# Altium schematic symbol library WPME-FISM.SchLib: 32 symbols
Pins are listed as number, name and electrical type; pins without a type are passive.

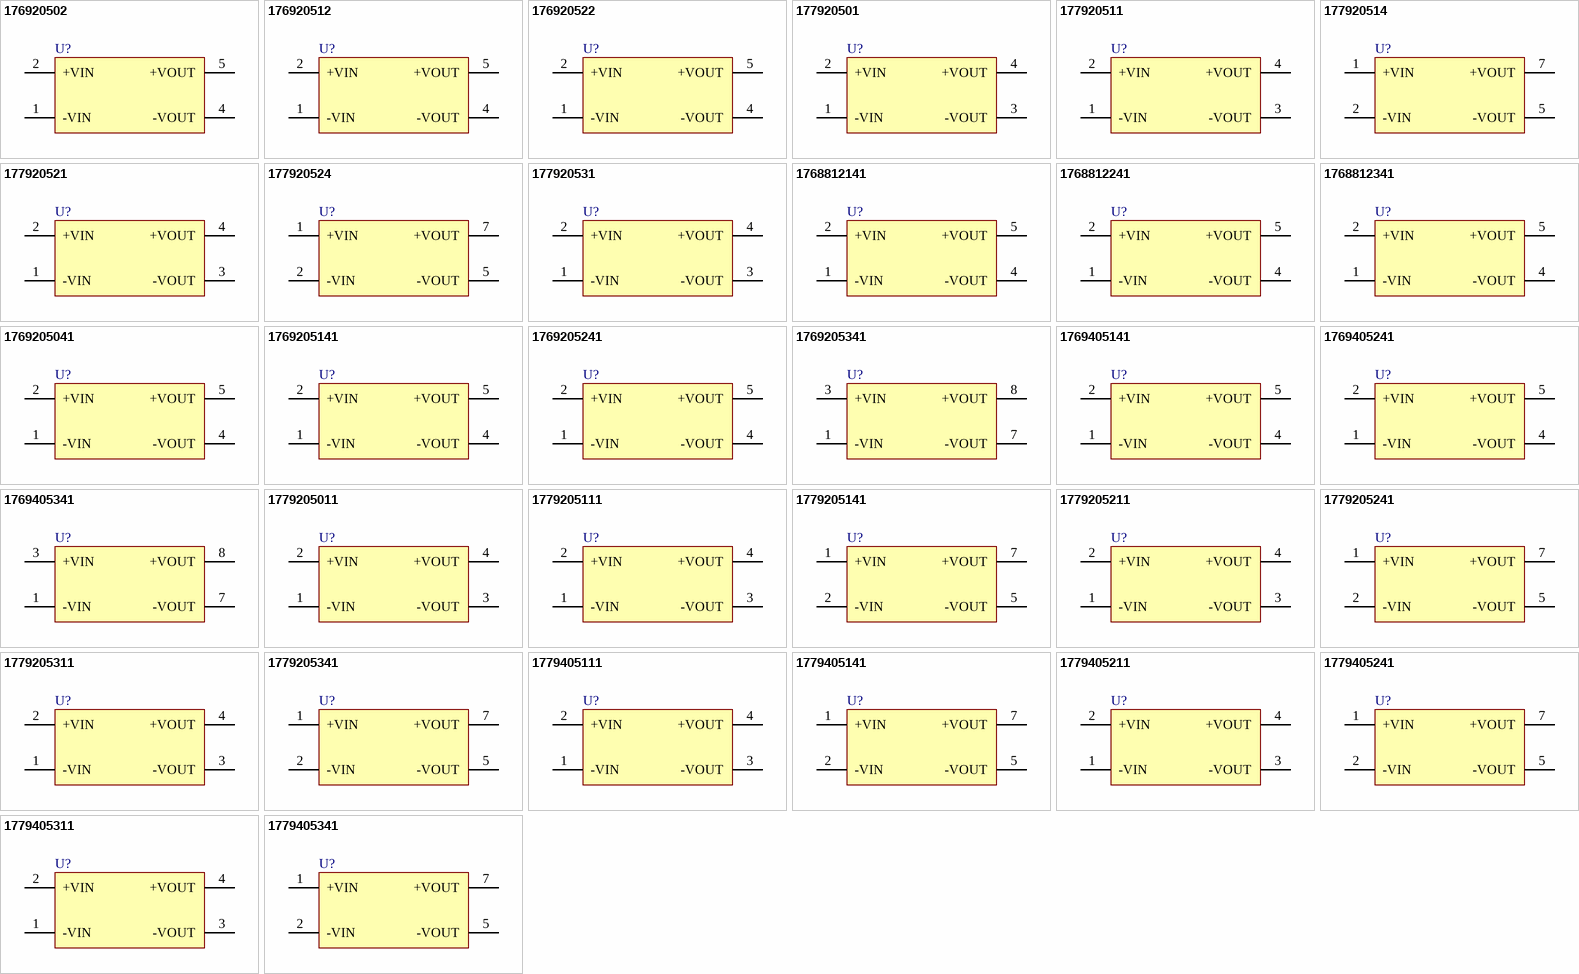
[diagram p0: symbols 176920502 to 1779405341]

## 176920502
designator U?, comment 2.97 - 3.63Vin, 5Vout  (value not drawn)
WPME-FISM Fixed Isolated Module, SMT-8, 2.97 - 3.63Vin, 5Vout, 1W; Manufacturer Part Number: 176920502; Manufacturer: Wurth Elektronik; Output Voltage: 5V; Type of Insulation: Functional; Isolation Voltage: 2000V; Short Circuit Protection: no; Category: Isolated Converter; Match Code: WPME-FISM; ComponentLink1Description: Website Link; ComponentLink1URL: https://www.we-online.com; ComponentLink2Description: Datasheet Link; ComponentLink2URL: https://www.we-online.com/components/products/datasheet/176920502; Mount: Surface Mount; Operating Temperature Min: -40degC; Operating Temperature Max: 100degC; Packaging: Tape and Reel; Case/Size Code: SMT-8; Length: 12.75mm; Width: 10.7mm; Height: 6.7mm; Input Voltage: 2.97 - 3.63V; Output Power: 1W
footprint SMT-8_176920502
pins: 1 -VIN, 2 +VIN, 4 -VOUT, 5 +VOUT

## 176920512
designator U?, comment 4.5 - 5.5Vin, 5Vout  (value not drawn)
WPME-FISM Fixed Isolated Module, SMT-8, 4.5 - 5.5Vin, 5Vout, 1W; Manufacturer Part Number: 176920512; Manufacturer: Wurth Elektronik; Output Voltage: 5V; Type of Insulation: Functional; Isolation Voltage: 2000V; Short Circuit Protection: no; Category: Isolated Converter; Match Code: WPME-FISM; ComponentLink1Description: Website Link; ComponentLink1URL: https://www.we-online.com; ComponentLink2Description: Datasheet Link; ComponentLink2URL: https://www.we-online.com/components/products/datasheet/176920512; Mount: Surface Mount; Operating Temperature Min: -40degC; Operating Temperature Max: 100degC; Packaging: Tape and Reel; Case/Size Code: SMT-8; Length: 12.75mm; Width: 10.7mm; Height: 6.7mm; Input Voltage: 4.5 - 5.5V; Output Power: 1W
footprint SMT-8_176920512
pins: 1 -VIN, 2 +VIN, 4 -VOUT, 5 +VOUT

## 176920522
designator U?, comment 10.8 - 13.2Vin, 5Vout  (value not drawn)
WPME-FISM Fixed Isolated Module, SMT-8, 10.8 - 13.2Vin, 5Vout, 1W; Manufacturer Part Number: 176920522; Manufacturer: Wurth Elektronik; Output Voltage: 5V; Type of Insulation: Functional; Isolation Voltage: 2000V; Short Circuit Protection: no; Category: Isolated Converter; Match Code: WPME-FISM; ComponentLink1Description: Website Link; ComponentLink1URL: https://www.we-online.com; ComponentLink2Description: Datasheet Link; ComponentLink2URL: https://www.we-online.com/components/products/datasheet/176920522; Mount: Surface Mount; Operating Temperature Min: -40degC; Operating Temperature Max: 100degC; Packaging: Tape and Reel; Case/Size Code: SMT-8; Length: 12.75mm; Width: 10.7mm; Height: 6.7mm; Input Voltage: 10.8 - 13.2V; Output Power: 1W
footprint SMT-8_176920522
pins: 1 -VIN, 2 +VIN, 4 -VOUT, 5 +VOUT

## 177920501
designator U?, comment 2.97 - 3.63Vin, 5Vout  (value not drawn)
WPME-FISM Fixed Isolated Module, SIP-4, 2.97 - 3.63Vin, 5Vout, 1W; Manufacturer Part Number: 177920501; Manufacturer: Wurth Elektronik; Output Voltage: 5V; Type of Insulation: Functional; Isolation Voltage: 1000V; Short Circuit Protection: no; Category: Isolated Converter; Match Code: WPME-FISM; ComponentLink1Description: Website Link; ComponentLink1URL: https://www.we-online.com; ComponentLink2Description: Datasheet Link; ComponentLink2URL: https://www.we-online.com/components/products/datasheet/177920501; Mount: Through Hole; Operating Temperature Min: -40degC; Operating Temperature Max: 85degC; Packaging: Tube; Case/Size Code: SIP-4; Length: 11.5mm; Width: 6mm; Height: 10mm; Input Voltage: 2.97 - 3.63V; Output Power: 1W
footprint SIP-4_177920501
pins: 1 -VIN, 2 +VIN, 3 -VOUT, 4 +VOUT

## 177920511
designator U?, comment 4.5 - 5.5Vin, 5Vout  (value not drawn)
WPME-FISM Fixed Isolated Module, SIP-4, 4.5 - 5.5Vin, 5Vout, 1W; Manufacturer Part Number: 177920511; Manufacturer: Wurth Elektronik; Output Voltage: 5V; Type of Insulation: Functional; Isolation Voltage: 1000V; Short Circuit Protection: no; Category: Isolated Converter; Match Code: WPME-FISM; ComponentLink1Description: Website Link; ComponentLink1URL: https://www.we-online.com; ComponentLink2Description: Datasheet Link; ComponentLink2URL: https://www.we-online.com/components/products/datasheet/177920511; Mount: Through Hole; Operating Temperature Min: -40degC; Operating Temperature Max: 85degC; Packaging: Tube; Case/Size Code: SIP-4; Length: 11.5mm; Width: 6mm; Height: 10mm; Input Voltage: 4.5 - 5.5V; Output Power: 1W
footprint SIP-4_177920511
pins: 1 -VIN, 2 +VIN, 3 -VOUT, 4 +VOUT

## 177920514
designator U?, comment 4.5 - 5.5Vin, 5Vout  (value not drawn)
WPME-FISM Fixed Isolated Module, SIP-7, 4.5 - 5.5Vin, 5Vout, 1W; Manufacturer Part Number: 177920514; Manufacturer: Wurth Elektronik; Output Voltage: 5V; Type of Insulation: Functional; Isolation Voltage: 4000V; Short Circuit Protection: no; Category: Isolated Converter; Match Code: WPME-FISM; ComponentLink1Description: Website Link; ComponentLink1URL: https://www.we-online.com; ComponentLink2Description: Datasheet Link; ComponentLink2URL: https://www.we-online.com/components/products/datasheet/177920514; Mount: Through Hole; Operating Temperature Min: -40degC; Operating Temperature Max: 85degC; Packaging: Tube; Case/Size Code: SIP-7; Length: 19.6mm; Width: 7.05mm; Height: 10.2mm; Input Voltage: 4.5 - 5.5V; Output Power: 1W
footprint SIP-7_177920514
pins: 1 +VIN, 2 -VIN, 5 -VOUT, 7 +VOUT

## 177920521
designator U?, comment 10.8 - 13.2Vin, 5Vout  (value not drawn)
WPME-FISM Fixed Isolated Module, SIP-4, 10.8 - 13.2Vin, 5Vout, 1W; Manufacturer Part Number: 177920521; Manufacturer: Wurth Elektronik; Output Voltage: 5V; Type of Insulation: Functional; Isolation Voltage: 1000V; Short Circuit Protection: no; Category: Isolated Converter; Match Code: WPME-FISM; ComponentLink1Description: Website Link; ComponentLink1URL: https://www.we-online.com; ComponentLink2Description: Datasheet Link; ComponentLink2URL: https://www.we-online.com/components/products/datasheet/177920521; Mount: Through Hole; Operating Temperature Min: -40degC; Operating Temperature Max: 85degC; Packaging: Tube; Case/Size Code: SIP-4; Length: 11.5mm; Width: 6mm; Height: 10mm; Input Voltage: 10.8 - 13.2V; Output Power: 1W
footprint SIP-4_177920521
pins: 1 -VIN, 2 +VIN, 3 -VOUT, 4 +VOUT

## 177920524
designator U?, comment 10.8 - 13.2Vin, 5Vout  (value not drawn)
WPME-FISM Fixed Isolated Module, SIP-7, 10.8 - 13.2Vin, 5Vout, 1W; Manufacturer Part Number: 177920524; Manufacturer: Wurth Elektronik; Output Voltage: 5V; Type of Insulation: Functional; Isolation Voltage: 4000V; Short Circuit Protection: no; Category: Isolated Converter; Match Code: WPME-FISM; ComponentLink1Description: Website Link; ComponentLink1URL: https://www.we-online.com; ComponentLink2Description: Datasheet Link; ComponentLink2URL: https://www.we-online.com/components/products/datasheet/177920524; Mount: Through Hole; Operating Temperature Min: -40degC; Operating Temperature Max: 85degC; Packaging: Tube; Case/Size Code: SIP-7; Length: 19.6mm; Width: 7.05mm; Height: 10.2mm; Input Voltage: 10.8 - 13.2V; Output Power: 1W
footprint SIP-7_177920524
pins: 1 +VIN, 2 -VIN, 5 -VOUT, 7 +VOUT

## 177920531
designator U?, comment 21.6 - 26.4Vin, 5Vout  (value not drawn)
WPME-FISM Fixed Isolated Module, SIP-4, 21.6 - 26.4Vin, 5Vout, 1W; Manufacturer Part Number: 177920531; Manufacturer: Wurth Elektronik; Output Voltage: 5V; Type of Insulation: Functional; Isolation Voltage: 1000V; Short Circuit Protection: no; Category: Isolated Converter; Match Code: WPME-FISM; ComponentLink1Description: Website Link; ComponentLink1URL: https://www.we-online.com; ComponentLink2Description: Datasheet Link; ComponentLink2URL: https://www.we-online.com/components/products/datasheet/177920531; Mount: Through Hole; Operating Temperature Min: -40degC; Operating Temperature Max: 85degC; Packaging: Tube; Case/Size Code: SIP-4; Length: 11.5mm; Width: 6mm; Height: 10mm; Input Voltage: 21.6 - 26.4V; Output Power: 1W
footprint SIP-4_177920531
pins: 1 -VIN, 2 +VIN, 3 -VOUT, 4 +VOUT

## 1768812141
designator U?, comment 4.5 - 5.5Vin, 12Vout  (value not drawn)
WPME-FISM Fixed Isolated Module, SMT-8, 4.5 - 5.5Vin, 12Vout, 1W; Manufacturer Part Number: 1768812141; Manufacturer: Wurth Elektronik; Output Voltage: 12V; Type of Insulation: Functional; Isolation Voltage: 4000V; Short Circuit Protection: continuous; Category: Isolated Converter; Match Code: WPME-FISM; ComponentLink1Description: Website Link; ComponentLink1URL: https://www.we-online.com; ComponentLink2Description: Datasheet Link; ComponentLink2URL: https://www.we-online.com/components/products/datasheet/1768812141; Mount: Surface Mount; Operating Temperature Min: -40degC; Operating Temperature Max: 105degC; Packaging: Tape and Reel; Case/Size Code: SMT-8; Length: 12.7mm; Width: 11.05mm; Height: 6.25mm; Input Voltage: 4.5 - 5.5V; Output Power: 1W
footprint SMT-8_1768812141
pins: 1 -VIN, 2 +VIN, 4 -VOUT, 5 +VOUT

## 1768812241
designator U?, comment 10.8 - 13.2Vin, 12Vout  (value not drawn)
WPME-FISM Fixed Isolated Module, SMT-8, 10.8 - 13.2Vin, 12Vout, 1W; Manufacturer Part Number: 1768812241; Manufacturer: Wurth Elektronik; Output Voltage: 12V; Type of Insulation: Functional; Isolation Voltage: 4000V; Short Circuit Protection: continuous; Category: Isolated Converter; Match Code: WPME-FISM; ComponentLink1Description: Website Link; ComponentLink1URL: https://www.we-online.com; ComponentLink2Description: Datasheet Link; ComponentLink2URL: https://www.we-online.com/components/products/datasheet/1768812241; Mount: Surface Mount; Operating Temperature Min: -40degC; Operating Temperature Max: 105degC; Packaging: Tape and Reel; Case/Size Code: SMT-8; Length: 12.7mm; Width: 11.05mm; Height: 6.25mm; Input Voltage: 10.8 - 13.2V; Output Power: 1W
footprint SMT-8_1768812241
pins: 1 -VIN, 2 +VIN, 4 -VOUT, 5 +VOUT

## 1768812341
designator U?, comment 21.6 - 26.4Vin, 12Vout  (value not drawn)
WPME-FISM Fixed Isolated Module, SMT-8, 21.6 - 26.4Vin, 12Vout, 1W; Manufacturer Part Number: 1768812341; Manufacturer: Wurth Elektronik; Output Voltage: 12V; Type of Insulation: Functional; Isolation Voltage: 4000V; Short Circuit Protection: continuous; Category: Isolated Converter; Match Code: WPME-FISM; ComponentLink1Description: Website Link; ComponentLink1URL: https://www.we-online.com; ComponentLink2Description: Datasheet Link; ComponentLink2URL: https://www.we-online.com/components/products/datasheet/1768812341; Mount: Surface Mount; Operating Temperature Min: -40degC; Operating Temperature Max: 105degC; Packaging: Tape and Reel; Case/Size Code: SMT-8; Length: 12.8mm; Width: 11.1mm; Height: 6.9mm; Input Voltage: 21.6 - 26.4V; Output Power: 1W
footprint SMT-8_1768812341
pins: 1 -VIN, 2 +VIN, 4 -VOUT, 5 +VOUT

## 1769205041
designator U?, comment 2.97 - 3.63Vin, 5Vout  (value not drawn)
WPME-FISM Fixed Isolated Module, SMT-8, 2.97 - 3.63Vin, 5Vout, 1W; Manufacturer Part Number: 1769205041; Manufacturer: Wurth Elektronik; Output Voltage: 5V; Type of Insulation: Functional; Isolation Voltage: 4000V; Short Circuit Protection: continuous; Category: Isolated Converter; Match Code: WPME-FISM; ComponentLink1Description: Website Link; ComponentLink1URL: https://www.we-online.com; ComponentLink2Description: Datasheet Link; ComponentLink2URL: https://www.we-online.com/components/products/datasheet/1769205041; Mount: Surface Mount; Operating Temperature Min: -40degC; Operating Temperature Max: 105degC; Packaging: Tape and Reel; Case/Size Code: SMT-8; Length: 12.7mm; Width: 11.05mm; Height: 6.25mm; Input Voltage: 2.97 - 3.63V; Output Power: 1W
footprint SMT-8_1769205041
pins: 1 -VIN, 2 +VIN, 4 -VOUT, 5 +VOUT

## 1769205141
designator U?, comment 4.5 - 5.5Vin, 5Vout  (value not drawn)
WPME-FISM Fixed Isolated Module, SMT-8, 4.5 - 5.5Vin, 5Vout, 1W; Manufacturer Part Number: 1769205141; Manufacturer: Wurth Elektronik; Output Voltage: 5V; Type of Insulation: Functional; Isolation Voltage: 4000V; Short Circuit Protection: continuous; Category: Isolated Converter; Match Code: WPME-FISM; ComponentLink1Description: Website Link; ComponentLink1URL: https://www.we-online.com; ComponentLink2Description: Datasheet Link; ComponentLink2URL: https://www.we-online.com/components/products/datasheet/1769205141; Mount: Surface Mount; Operating Temperature Min: -40degC; Operating Temperature Max: 105degC; Packaging: Tape and Reel; Case/Size Code: SMT-8; Length: 12.7mm; Width: 11.05mm; Height: 6.25mm; Input Voltage: 4.5 - 5.5V; Output Power: 1W
footprint SMT-8_1769205141
pins: 1 -VIN, 2 +VIN, 4 -VOUT, 5 +VOUT

## 1769205241
designator U?, comment 10.8 - 13.2Vin, 5Vout  (value not drawn)
WPME-FISM Fixed Isolated Module, SMT-8, 10.8 - 13.2Vin, 5Vout, 1W; Manufacturer Part Number: 1769205241; Manufacturer: Wurth Elektronik; Output Voltage: 5V; Type of Insulation: Functional; Isolation Voltage: 4000V; Short Circuit Protection: continuous; Category: Isolated Converter; Match Code: WPME-FISM; ComponentLink1Description: Website Link; ComponentLink1URL: https://www.we-online.com; ComponentLink2Description: Datasheet Link; ComponentLink2URL: https://www.we-online.com/components/products/datasheet/1769205241; Mount: Surface Mount; Operating Temperature Min: -40degC; Operating Temperature Max: 105degC; Packaging: Tape and Reel; Case/Size Code: SMT-8; Length: 12.7mm; Width: 11.05mm; Height: 6.25mm; Input Voltage: 10.8 - 13.2V; Output Power: 1W
footprint SMT-8_1769205241
pins: 1 -VIN, 2 +VIN, 4 -VOUT, 5 +VOUT

## 1769205341
designator U?, comment 21.6 - 26.4Vin, 5Vout  (value not drawn)
WPME-FISM Fixed Isolated Module, SMT-8, 21.6 - 26.4Vin, 5Vout, 1W; Manufacturer Part Number: 1769205341; Manufacturer: Wurth Elektronik; Output Voltage: 5V; Type of Insulation: Functional; Isolation Voltage: 3000V; Short Circuit Protection: continuous; Category: Isolated Converter; Match Code: WPME-FISM; ComponentLink1Description: Website Link; ComponentLink1URL: https://www.we-online.com; ComponentLink2Description: Datasheet Link; ComponentLink2URL: https://www.we-online.com/components/products/datasheet/1769205341; Mount: Surface Mount; Operating Temperature Min: -40degC; Operating Temperature Max: 105degC; Packaging: Tape and Reel; Case/Size Code: SMT-8; Length: 12.7mm; Width: 11.05mm; Height: 6.25mm; Input Voltage: 21.6 - 26.4V; Output Power: 1W
footprint SMT-8_1769205341
pins: 1 -VIN, 3 +VIN, 7 -VOUT, 8 +VOUT

## 1769405141
designator U?, comment 4.5 - 5.5Vin, 5Vout  (value not drawn)
WPME-FISM Fixed Isolated Module, SMT-8, 4.5 - 5.5Vin, 5Vout, 2W; Manufacturer Part Number: 1769405141; Manufacturer: Wurth Elektronik; Output Voltage: 5V; Type of Insulation: Functional; Isolation Voltage: 4000V; Short Circuit Protection: continuous; Category: Isolated Converter; Match Code: WPME-FISM; ComponentLink1Description: Website Link; ComponentLink1URL: https://www.we-online.com; ComponentLink2Description: Datasheet Link; ComponentLink2URL: https://www.we-online.com/components/products/datasheet/1769405141; Mount: Surface Mount; Operating Temperature Min: -40degC; Operating Temperature Max: 105degC; Packaging: Tape and Reel; Case/Size Code: SMT-8; Length: 12.7mm; Width: 11.05mm; Height: 6.25mm; Input Voltage: 4.5 - 5.5V; Output Power: 2W
footprint SMT-8_1769405141
pins: 1 -VIN, 2 +VIN, 4 -VOUT, 5 +VOUT

## 1769405241
designator U?, comment 10.8 - 13.2Vin, 5Vout  (value not drawn)
WPME-FISM Fixed Isolated Module, SMT-8, 10.8 - 13.2Vin, 5Vout, 2W; Manufacturer Part Number: 1769405241; Manufacturer: Wurth Elektronik; Output Voltage: 5V; Type of Insulation: Functional; Isolation Voltage: 4000V; Short Circuit Protection: continuous; Category: Isolated Converter; Match Code: WPME-FISM; ComponentLink1Description: Website Link; ComponentLink1URL: https://www.we-online.com; ComponentLink2Description: Datasheet Link; ComponentLink2URL: https://www.we-online.com/components/products/datasheet/1769405241; Mount: Surface Mount; Operating Temperature Min: -40degC; Operating Temperature Max: 105degC; Packaging: Tape and Reel; Case/Size Code: SMT-8; Length: 12.7mm; Width: 11.05mm; Height: 6.25mm; Input Voltage: 10.8 - 13.2V; Output Power: 2W
footprint SMT-8_1769405241
pins: 1 -VIN, 2 +VIN, 4 -VOUT, 5 +VOUT

## 1769405341
designator U?, comment 21.6 - 26.4Vin, 5Vout  (value not drawn)
WPME-FISM Fixed Isolated Module, SMT-8, 21.6 - 26.4Vin, 5Vout, 2W; Manufacturer Part Number: 1769405341; Manufacturer: Wurth Elektronik; Output Voltage: 5V; Type of Insulation: Functional; Isolation Voltage: 3000V; Short Circuit Protection: continuous; Category: Isolated Converter; Match Code: WPME-FISM; ComponentLink1Description: Website Link; ComponentLink1URL: https://www.we-online.com; ComponentLink2Description: Datasheet Link; ComponentLink2URL: https://www.we-online.com/components/products/datasheet/1769405341; Mount: Surface Mount; Operating Temperature Min: -40degC; Operating Temperature Max: 105degC; Packaging: Tape and Reel; Case/Size Code: SMT-8; Length: 12.7mm; Width: 11.05mm; Height: 6.25mm; Input Voltage: 21.6 - 26.4V; Output Power: 2W
footprint SMT-8_1769405341
pins: 1 -VIN, 3 +VIN, 7 -VOUT, 8 +VOUT

## 1779205011
designator U?, comment 2.79 - 3.63Vin, 5Vout  (value not drawn)
WPME-FISM Fixed Isolated Module, SIP-4, 2.79 - 3.63Vin, 5Vout, 1W; Manufacturer Part Number: 1779205011; Manufacturer: Wurth Elektronik; Output Voltage: 5V; Type of Insulation: Functional; Isolation Voltage: 3000V; Short Circuit Protection: continuous; Category: Isolated Converter; Match Code: WPME-FISM; ComponentLink1Description: Website Link; ComponentLink1URL: https://www.we-online.com; ComponentLink2Description: Datasheet Link; ComponentLink2URL: https://www.we-online.com/components/products/datasheet/1779205011; Mount: Through Hole; Operating Temperature Min: -40degC; Operating Temperature Max: 105degC; Packaging: Tape and Reel; Case/Size Code: SIP-4; Length: 11.5mm; Width: 6mm; Height: 10mm; Input Voltage: 2.79 - 3.63V; Output Power: 1W
footprint SIP-4_1779205011
pins: 1 -VIN, 2 +VIN, 3 -VOUT, 4 +VOUT

## 1779205111
designator U?, comment 4.5 - 5.5Vin, 5Vout  (value not drawn)
WPME-FISM Fixed Isolated Module, SIP-4, 4.5 - 5.5Vin, 5Vout, 1W; Manufacturer Part Number: 1779205111; Manufacturer: Wurth Elektronik; Output Voltage: 5V; Type of Insulation: Functional; Isolation Voltage: 3000V; Short Circuit Protection: continuous; Category: Isolated Converter; Match Code: WPME-FISM; ComponentLink1Description: Website Link; ComponentLink1URL: https://www.we-online.com; ComponentLink2Description: Datasheet Link; ComponentLink2URL: https://www.we-online.com/components/products/datasheet/1779205111; Mount: Through Hole; Operating Temperature Min: -40degC; Operating Temperature Max: 105degC; Packaging: Tube; Case/Size Code: SIP-4; Length: 11.5mm; Width: 6mm; Height: 10mm; Input Voltage: 4.5 - 5.5V; Output Power: 1W
footprint SIP-4_1779205111
pins: 1 -VIN, 2 +VIN, 3 -VOUT, 4 +VOUT

## 1779205141
designator U?, comment 4.5 - 5.5Vin, 5Vout  (value not drawn)
WPME-FISM Fixed Isolated Module, SIP-7, 4.5 - 5.5Vin, 5Vout, 1W; Manufacturer Part Number: 1779205141; Manufacturer: Wurth Elektronik; Output Voltage: 5V; Type of Insulation: Functional; Isolation Voltage: 4000V; Short Circuit Protection: continuous; Category: Isolated Converter; Match Code: WPME-FISM; ComponentLink1Description: Website Link; ComponentLink1URL: https://www.we-online.com; ComponentLink2Description: Datasheet Link; ComponentLink2URL: https://www.we-online.com/components/products/datasheet/1779205141; Mount: Through Hole; Operating Temperature Min: -40degC; Operating Temperature Max: 105degC; Packaging: Tube; Case/Size Code: SIP-7; Length: 19.65mm; Width: 6mm; Height: 10mm; Input Voltage: 4.5 - 5.5V; Output Power: 1W
footprint SIP-7_1779205141
pins: 1 +VIN, 2 -VIN, 5 -VOUT, 7 +VOUT

## 1779205211
designator U?, comment 10.8 - 13.2Vin, 5Vout  (value not drawn)
WPME-FISM Fixed Isolated Module, SIP-4, 10.8 - 13.2Vin, 5Vout, 1W; Manufacturer Part Number: 1779205211; Manufacturer: Wurth Elektronik; Output Voltage: 5V; Type of Insulation: Functional; Isolation Voltage: 3000V; Short Circuit Protection: continuous; Category: Isolated Converter; Match Code: WPME-FISM; ComponentLink1Description: Website Link; ComponentLink1URL: https://www.we-online.com; ComponentLink2Description: Datasheet Link; ComponentLink2URL: https://www.we-online.com/components/products/datasheet/1779205211; Mount: Through Hole; Operating Temperature Min: -40degC; Operating Temperature Max: 105degC; Packaging: Tube; Case/Size Code: SIP-4; Length: 11.5mm; Width: 6mm; Height: 10mm; Input Voltage: 10.8 - 13.2V; Output Power: 1W
footprint SIP-4_1779205211
pins: 1 -VIN, 2 +VIN, 3 -VOUT, 4 +VOUT

## 1779205241
designator U?, comment 10.8 - 13.2Vin, 5Vout  (value not drawn)
WPME-FISM Fixed Isolated Module, SIP-7, 10.8 - 13.2Vin, 5Vout, 1W; Manufacturer Part Number: 1779205241; Manufacturer: Wurth Elektronik; Output Voltage: 5V; Type of Insulation: Functional; Isolation Voltage: 4000V; Short Circuit Protection: continuous; Category: Isolated Converter; Match Code: WPME-FISM; ComponentLink1Description: Website Link; ComponentLink1URL: https://www.we-online.com; ComponentLink2Description: Datasheet Link; ComponentLink2URL: https://www.we-online.com/components/products/datasheet/1779205241; Mount: Through Hole; Operating Temperature Min: -40degC; Operating Temperature Max: 105degC; Packaging: Tube; Case/Size Code: SIP-7; Length: 19.65mm; Width: 6mm; Height: 10mm; Input Voltage: 10.8 - 13.2V; Output Power: 1W
footprint SIP-7_1779205241
pins: 1 +VIN, 2 -VIN, 5 -VOUT, 7 +VOUT

## 1779205311
designator U?, comment 21.6 - 26.4Vin, 5Vout  (value not drawn)
WPME-FISM Fixed Isolated Module, SIP-4, 21.6 - 26.4Vin, 5Vout, 1W; Manufacturer Part Number: 1779205311; Manufacturer: Wurth Elektronik; Output Voltage: 5V; Type of Insulation: Functional; Isolation Voltage: 1500V; Short Circuit Protection: continuous; Category: Isolated Converter; Match Code: WPME-FISM; ComponentLink1Description: Website Link; ComponentLink1URL: https://www.we-online.com; ComponentLink2Description: Datasheet Link; ComponentLink2URL: https://www.we-online.com/components/products/datasheet/1779205311; Mount: Through Hole; Operating Temperature Min: -40degC; Operating Temperature Max: 105degC; Packaging: Tube; Case/Size Code: SIP-4; Length: 11.6mm; Width: 6mm; Height: 10.16mm; Input Voltage: 21.6 - 26.4V; Output Power: 1W
footprint SIP-4_1779205311
pins: 1 -VIN, 2 +VIN, 3 -VOUT, 4 +VOUT

## 1779205341
designator U?, comment 21.6 - 26.4Vin, 5Vout  (value not drawn)
WPME-FISM Fixed Isolated Module, SIP-7, 21.6 - 26.4Vin, 5Vout, 1W; Manufacturer Part Number: 1779205341; Manufacturer: Wurth Elektronik; Output Voltage: 5V; Type of Insulation: Functional; Isolation Voltage: 3000V; Short Circuit Protection: continuous; Category: Isolated Converter; Match Code: WPME-FISM; ComponentLink1Description: Website Link; ComponentLink1URL: https://www.we-online.com; ComponentLink2Description: Datasheet Link; ComponentLink2URL: https://www.we-online.com/components/products/datasheet/1779205341; Mount: Through Hole; Operating Temperature Min: -40degC; Operating Temperature Max: 105degC; Packaging: Tube; Case/Size Code: SIP-7; Length: 19.65mm; Width: 6mm; Height: 10mm; Input Voltage: 21.6 - 26.4V; Output Power: 1W
footprint SIP-7_1779205341
pins: 1 +VIN, 2 -VIN, 5 -VOUT, 7 +VOUT

## 1779405111
designator U?, comment 4.5 - 5.5Vin, 5Vout  (value not drawn)
WPME-FISM Fixed Isolated Module, SIP-4, 4.5 - 5.5Vin, 5Vout, 2W; Manufacturer Part Number: 1779405111; Manufacturer: Wurth Elektronik; Output Voltage: 5V; Type of Insulation: Functional; Isolation Voltage: 1500V; Short Circuit Protection: continuous; Category: Isolated Converter; Match Code: WPME-FISM; ComponentLink1Description: Website Link; ComponentLink1URL: https://www.we-online.com; ComponentLink2Description: Datasheet Link; ComponentLink2URL: https://www.we-online.com/components/products/datasheet/1779405111; Mount: Through Hole; Operating Temperature Min: -40degC; Operating Temperature Max: 85degC; Packaging: Tube; Case/Size Code: SIP-4; Length: 11.6mm; Width: 7.55mm; Height: 10.16mm; Input Voltage: 4.5 - 5.5V; Output Power: 2W
footprint SIP-4_1779405111
pins: 1 -VIN, 2 +VIN, 3 -VOUT, 4 +VOUT

## 1779405141
designator U?, comment 4.5 - 5.5Vin, 5Vout  (value not drawn)
WPME-FISM Fixed Isolated Module, SIP-7, 4.5 - 5.5Vin, 5Vout, 2W; Manufacturer Part Number: 1779405141; Manufacturer: Wurth Elektronik; Output Voltage: 5V; Type of Insulation: Functional; Isolation Voltage: 3000V; Short Circuit Protection: continuous; Category: Isolated Converter; Match Code: WPME-FISM; ComponentLink1Description: Website Link; ComponentLink1URL: https://www.we-online.com; ComponentLink2Description: Datasheet Link; ComponentLink2URL: https://www.we-online.com/components/products/datasheet/1779405141; Mount: Through Hole; Operating Temperature Min: -40degC; Operating Temperature Max: 105degC; Packaging: Tube; Case/Size Code: SIP-7; Length: 19.65mm; Width: 7.05mm; Height: 10.16mm; Input Voltage: 4.5 - 5.5V; Output Power: 2W
footprint SIP-7_1779405141
pins: 1 +VIN, 2 -VIN, 5 -VOUT, 7 +VOUT

## 1779405211
designator U?, comment 10.8 - 13.2Vin, 5Vout  (value not drawn)
WPME-FISM Fixed Isolated Module, SIP-4, 10.8 - 13.2Vin, 5Vout, 2W; Manufacturer Part Number: 1779405211; Manufacturer: Wurth Elektronik; Output Voltage: 5V; Type of Insulation: Functional; Isolation Voltage: 1500V; Short Circuit Protection: continuous; Category: Isolated Converter; Match Code: WPME-FISM; ComponentLink1Description: Website Link; ComponentLink1URL: https://www.we-online.com; ComponentLink2Description: Datasheet Link; ComponentLink2URL: https://www.we-online.com/components/products/datasheet/1779405211; Mount: Through Hole; Operating Temperature Min: -40degC; Operating Temperature Max: 85degC; Packaging: Tube; Case/Size Code: SIP-4; Length: 11.6mm; Width: 7.55mm; Height: 10.16mm; Input Voltage: 10.8 - 13.2V; Output Power: 2W
footprint SIP-4_1779405211
pins: 1 -VIN, 2 +VIN, 3 -VOUT, 4 +VOUT

## 1779405241
designator U?, comment 10.8 - 13.2Vin, 5Vout  (value not drawn)
WPME-FISM Fixed Isolated Module, SIP-7, 10.8 - 13.2Vin, 5Vout, 2W; Manufacturer Part Number: 1779405241; Manufacturer: Wurth Elektronik; Output Voltage: 5V; Type of Insulation: Functional; Isolation Voltage: 3000V; Short Circuit Protection: continuous; Category: Isolated Converter; Match Code: WPME-FISM; ComponentLink1Description: Website Link; ComponentLink1URL: https://www.we-online.com; ComponentLink2Description: Datasheet Link; ComponentLink2URL: https://www.we-online.com/components/products/datasheet/1779405241; Mount: Through Hole; Operating Temperature Min: -40degC; Operating Temperature Max: 105degC; Packaging: Tube; Case/Size Code: SIP-7; Length: 19.65mm; Width: 7.05mm; Height: 10.16mm; Input Voltage: 10.8 - 13.2V; Output Power: 2W
footprint SIP-7_1779405241
pins: 1 +VIN, 2 -VIN, 5 -VOUT, 7 +VOUT

## 1779405311
designator U?, comment 21.6 - 26.4Vin, 5Vout  (value not drawn)
WPME-FISM Fixed Isolated Module, SIP-4, 21.6 - 26.4Vin, 5Vout, 2W; Manufacturer Part Number: 1779405311; Manufacturer: Wurth Elektronik; Output Voltage: 5V; Type of Insulation: Functional; Isolation Voltage: 1500V; Short Circuit Protection: continuous; Category: Isolated Converter; Match Code: WPME-FISM; ComponentLink1Description: Website Link; ComponentLink1URL: https://www.we-online.com; ComponentLink2Description: Datasheet Link; ComponentLink2URL: https://www.we-online.com/components/products/datasheet/1779405311; Mount: Through Hole; Operating Temperature Min: -40degC; Operating Temperature Max: 85degC; Packaging: Tube; Case/Size Code: SIP-4; Length: 11.6mm; Width: 7.55mm; Height: 10.16mm; Input Voltage: 21.6 - 26.4V; Output Power: 2W
footprint SIP-4_1779405311
pins: 1 -VIN, 2 +VIN, 3 -VOUT, 4 +VOUT

## 1779405341
designator U?, comment 21.6 - 26.4Vin, 5Vout  (value not drawn)
WPME-FISM Fixed Isolated Module, SIP-7, 21.6 - 26.4Vin, 5Vout, 2W; Manufacturer Part Number: 1779405341; Manufacturer: Wurth Elektronik; Output Voltage: 5V; Type of Insulation: Functional; Isolation Voltage: 3000V; Short Circuit Protection: continuous; Category: Isolated Converter; Match Code: WPME-FISM; ComponentLink1Description: Website Link; ComponentLink1URL: https://www.we-online.com; ComponentLink2Description: Datasheet Link; ComponentLink2URL: https://www.we-online.com/components/products/datasheet/1779405341; Mount: Through Hole; Operating Temperature Min: -40degC; Operating Temperature Max: 105degC; Packaging: Tube; Case/Size Code: SIP-7; Length: 19.65mm; Width: 7.05mm; Height: 10.16mm; Input Voltage: 21.6 - 26.4V; Output Power: 2W
footprint SIP-7_1779405341
pins: 1 +VIN, 2 -VIN, 5 -VOUT, 7 +VOUT